# Altium schematic symbol library ADC.SchLib: 3 symbols
Pins are listed as number, name and electrical type; pins without a type are passive.

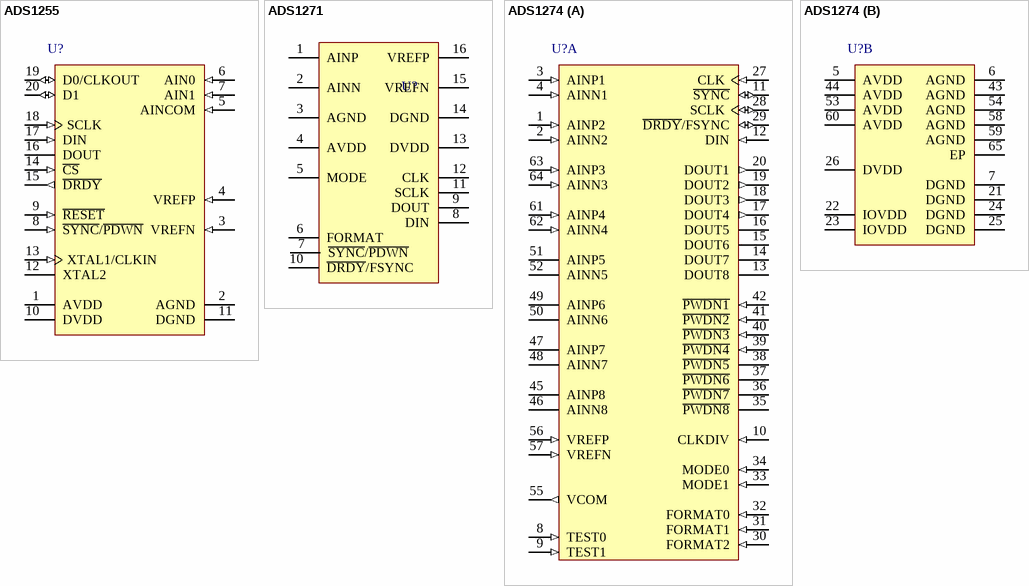
[diagram p0: symbols ADS1255 to ADS1274]

## ADS1255
designator U?
24-Bit, 30 kSPS Very Low Noise Delta-Sigma ADC, -40 to 85 degC, 20-pin SOP (DB20), Green (RoHS & no Sb/Br); Manufacturer: Texas Instruments; PartNumber: ADS1255IDBTG4; # Input Channels: 2; Analog Voltage AV/DD(Max)(V): 5.25; Analog Voltage AV/DD(Min)(V): 4.75; Digital Supply(Max)(V): 3.6; Digital Supply(Min)(V): 1.8; Interface: Serial SPI; Resolution(Bits): 24; Sample Rate (max)(SPS): 30k; SubFamily: Precision ADC (<=10MSPS); DatasheetVersion: SBAS288J; PackageVersion: 4040065/E, 12/2001; PackageReference: DB20; PackageDescription: 20-Pin Plastic Small Outline, Body 5.3 x 7.2 mm, Pitch 0.65 mm; Supplier 1: Digi-Key; Supplier Part Number 1: TLC2578IPWG4-ND; Supplier 2: Mouser; Supplier Part Number 2: 595-TLC2578IPWG4; Architecture: Delta-Sigma; Eco-Plan: Green (RoHS & no Sb/Br); Mounting Technology: Surface Mount; Code_JEDEC: MO-150; ComponentLink1Description: Manufacturer URL; ComponentLink1URL: http://www.ti.com/; ComponentLink2Description: Datasheet; ComponentLink2URL: http://www.ti.com/general/docs/lit/getliterature.tsp?genericPartNumber=ADS1255&fileType=pdf; ComponentLink3Description: Package Specification; ComponentLink3URL: http://www.ti.com/lit/ml/msso002e/msso002e.pdf
footprint SSOP20_L (SSOP, 20-Leads, Body 7.2x5.3mm, Pitch 0.65mm, IPC High Density)
footprint SSOP20_M (SSOP, 20-Leads, Body 7.2x5.3mm, Pitch 0.65mm, IPC Low Density)
footprint SSOP20_N (SSOP, 20-Leads, Body 7.2x5.3mm, Pitch 0.65mm, IPC Medium Density)
pins: 1 AVDD (power) "Analog power supply", 2 AGND (power) "Analog ground", 3 VREFN (in) "Negative reference input", 4 VREFP (in) "Positive reference input", 5 AINCOM (in) "Analog input common", 6 AIN0 (in) "Analog input 0", 7 AIN1 (in) "Analog input 1", 8 ~{SYNC}/~{PDWN} (in), 9 ~{RESET} (in) "Reset input", 10 DVDD (power) "Digital power supply", 11 DGND (power) "Digital ground", 12 XTAL2 "Crystal oscillator connection", 13 XTAL1/CLKIN (in), 14 ~{CS} (in) "Chip select", 15 ~{DRDY} (out) "Data ready output", 16 DOUT (hiz) "Serial data output", 17 DIN (in) "Serial data input", 18 SCLK (in) "Serial clock input", 19 D0/CLKOUT (io), 20 D1 (io) "Digital I/O 1"

## ADS1271
designator U?  (value not drawn)
24-Bit, 105 kSPS
footprint TSSOP16_L (TSSOP, 16-Leads, Body 5x4.4mm, Pitch 0.65mm, IPC High Density)
footprint TSSOP16_M (TSOP, 16-Leads, Body 5x4.4mm, Pitch 0.65mm, IPC Low Density)
footprint TSSOP16_N (TSOP, 16-Leads, Body 5x4.4mm, Pitch 0.65mm, IPC Medium Density)
pins: 1 AINP, 2 AINN, 3 AGND, 4 AVDD, 5 MODE, 6 FORMAT, 7 ~{SYNC}/~{PDWN}, 8 DIN, 9 DOUT, 10 ~{DRDY}/FSYNC, 11 SCLK, 12 CLK, 13 DVDD, 14 DGND, 15 VREFN, 16 VREFP

## ADS1274
designator U?
Quad, Simultaneous Sampling, 24-Bit ADC, -40 to 125 degC, 64-pin PQFP (PAP64), Green (RoHS & no Sb/Br); Manufacturer: Texas Instruments; PartNumber: ADS1274IPAPR; # Input Channels: 4; Analog Voltage AV/DD(Max)(V): 5.25; Analog Voltage AV/DD(Min)(V): 4.75; Architecture: Delta-Sigma; Digital Supply(Max)(V): 3.6; Digital Supply(Min)(V): 1.65; Interface: Serial SPI; Resolution(Bits): 24; Sample Rate (max) (SPS): 144k; SNR(dB): 111; SubFamily: Precision ADC (<=10MSPS); DatasheetVersion: SBAS367F; PackageVersion: 4147702/C, 08/2003; PackageReference: PAP64-6495X6495TP; PackageDescription: 64-Pin PowerPAD(TM) Plastic Quad Flatpack, Body 10 x 10 mm, Pitch 0.5 mm; Supplier 1: Digi-Key; Supplier Part Number 1: ADS1274IPAPR-ND; Supplier 2: Newark; Supplier Part Number 2: 50M8808; Supplier 3: Mouser; Supplier Part Number 3: 595-ADS1274IPAPR; Mounting Technology: Surface Mount; Code_JEDEC: MS-026; ComponentLink1Description: Manufacturer URL; ComponentLink1URL: http://www.ti.com/; ComponentLink2Description: Datasheet; ComponentLink2URL: http://www.ti.com/lit/ds/symlink/ads1274.pdf; ComponentLink3Description: Package Specification; ComponentLink3URL: http://www.ti.com/lit/ml/mpqf071b/mpqf071b.pdf
footprint TQFP64-PAD_L (Footprint not found)
footprint TQFP64-PAD_M (Footprint not found)
footprint TQFP64-PAD_N (Footprint not found)
part A pins: 1 AINP2 (in) "AINP[4:1] Positive analog input, channels 4 through 1.", 2 AINN2 (in) "AINN[4:1] Negative analog input, channels 4 through 1.", 3 AINP1 (in) "AINP[4:1] Positive analog input, channels 4 through 1.", 4 AINN1 (in) "AINN[4:1] Negative analog input, channels 4 through 1.", 8 TEST0 (in) "TEST[1:0] Test mode select: 00 = Normal operation 01 = Do not use 11 = Test mode 10 = Do not use", 9 TEST1 (in) "TEST[1:0] Test mode select: 00 = Normal operation 01 = Do not use 11 = Test mode 10 = Do not use", 10 CLKDIV (in) "CLK input divider control:1 = 37MHz (High-Speed mode)/otherwise 27MHz  0 = 13.5MHz (low-power)/5.4MHz (low-speed)", 11 ~{SYNC} (io) "Synchronize input (all channels).", 12 DIN (in) "Daisy-chain data input.", 13 DOUT8 "DOUT[8:5] Internally connected to active circuitry; outputs are driven.", 14 DOUT7 "DOUT[8:5] Internally connected to active circuitry; outputs are driven.", 15 DOUT6 "DOUT[8:5] Internally connected to active circuitry; outputs are driven.", 16 DOUT5 "DOUT[8:5] Internally connected to active circuitry; outputs are driven.", 17 DOUT4 (out) "DOUT[4:1] Data output for channels 4 through 1.", 18 DOUT3 (out) "DOUT[4:1] Data output for channels 4 through 1.", 19 DOUT2 (out) "DOUT[4:1] Data output for channels 4 through 1.", 20 DOUT1 (out) "DOUT[4:1] Data output for channels 4 through 1.", 27 CLK (in) "Master clock input (fCLK).", 28 SCLK (io) "Serial clock input, Modulator clock output", 29 ~{DRDY}/FSYNC (io) "Frame-Sync protocol: frame clock input; SPI protocol: data ready output.", 30 FORMAT2 (in) "FORMAT[2:0] Selects Frame-Sync/SPI protocol, TDM/discrete data outputs, fixed/dynamic position TDM data, and modulator mode/normal operating mode.", 31 FORMAT1 (in) "FORMAT[2:0] Selects Frame-Sync/SPI protocol, TDM/discrete data outputs, fixed/dynamic position TDM data, and modulator mode/normal operating mode.", 32 FORMAT0 (in) "FORMAT[2:0] Selects Frame-Sync/SPI protocol, TDM/discrete data outputs, fixed/dynamic position TDM data, and modulator mode/normal operating mode.", 33 MODE1 (in) "MODE[1:0] Selects High-Speed, High-Resolution, Low-Power, or Low-Speed mode operation.", 34 MODE0 (in) "MODE[1:0] Selects High-Speed, High-Resolution, Low-Power, or Low-Speed mode operation.", 35 ~{PWDN8} "P\W\D\N\[8:5] must = 0V", 36 ~{PWDN7} "P\W\D\N\[8:5] must = 0V", 37 ~{PWDN6} "P\W\D\N\[8:5] must = 0V", 38 ~{PWDN5} "P\W\D\N\[8:5] must = 0V", 39 ~{PWDN4} (in) "P\W\D\N\[4:1] Power-down control for channels 4 through 1.", 40 ~{PWDN3} (in) "P\W\D\N\[4:1] Power-down control for channels 4 through 1.", 41 ~{PWDN2} (in) "P\W\D\N\[4:1] Power-down control for channels 4 through 1.", 42 ~{PWDN1} (in) "P\W\D\N\[4:1] Power-down control for channels 4 through 1.", 45 AINP8 "AINP[8:5] Connected to internal ESD rails. The inputs may float", 46 AINN8 "AINN[8:5] Connected to internal ESD rails. The inputs may float", 47 AINP7 "AINP[8:5] Connected to internal ESD rails. The inputs may float", 48 AINN7 "AINN[8:5] Connected to internal ESD rails. The inputs may float", 49 AINP6 "AINP[8:5] Connected to internal ESD rails. The inputs may float", 50 AINN6 "AINN[8:5] Connected to internal ESD rails. The inputs may float", 51 AINP5 "AINP[8:5] Connected to internal ESD rails. The inputs may float", 52 AINN5 "AINN[8:5] Connected to internal ESD rails. The inputs may float", 55 VCOM (out) "AVDD/2 Unbuffered voltage output.", 56 VREFP (in) "Positive reference input.", 57 VREFN (in) "Negative reference input.", 61 AINP4 (in) "AINP[4:1] Positive analog input, channels 4 through 1.", 62 AINN4 (in) "AINN[4:1] Negative analog input, channels 4 through 1.", 63 AINP3 (in) "AINP[4:1] Positive analog input, channels 4 through 1.", 64 AINN3 (in) "AINN[4:1] Negative analog input, channels 4 through 1."
part B pins: 5 AVDD (power) "Analog power supply (4.75V to 5.25V).", 6 AGND (power) "Analog ground; connect to DGND using a single plane.", 7 DGND (power) "Digital ground power supply.", 21 DGND (power) "Digital ground power supply.", 22 IOVDD (power) "I/O power supply (+1.65V to +3.6V)", 23 IOVDD (power) "I/O power supply (+1.65V to +3.6V)", 24 DGND (power) "Digital ground power supply.", 25 DGND (power) "Digital ground power supply.", 26 DVDD (power) "Digital core power supply", 43 AGND (power) "Analog ground; connect to DGND using a single plane.", 44 AVDD (power) "Analog power supply (4.75V to 5.25V).", 53 AVDD (power) "Analog power supply (4.75V to 5.25V).", 54 AGND (power) "Analog ground; connect to DGND using a single plane.", 58 AGND (power) "Analog ground; connect to DGND using a single plane.", 59 AGND (power) "Analog ground; connect to DGND using a single plane.", 60 AVDD (power) "Analog power supply (4.75V to 5.25V).", 65 EP